# Altium footprint library 18-Heat-Sinks.PcbLib: 27 footprints (part 1 of 2)
Each footprint in its own frame and in the unit in brackets; x right, y up, seen from the top. Pads: shape width x height; smd on the part's side, far side on the other; paste and mask are expansions set on the pad; w line width, h text height; cw(c..) or ccw(c..) is an arc to the next point about the centre after c.
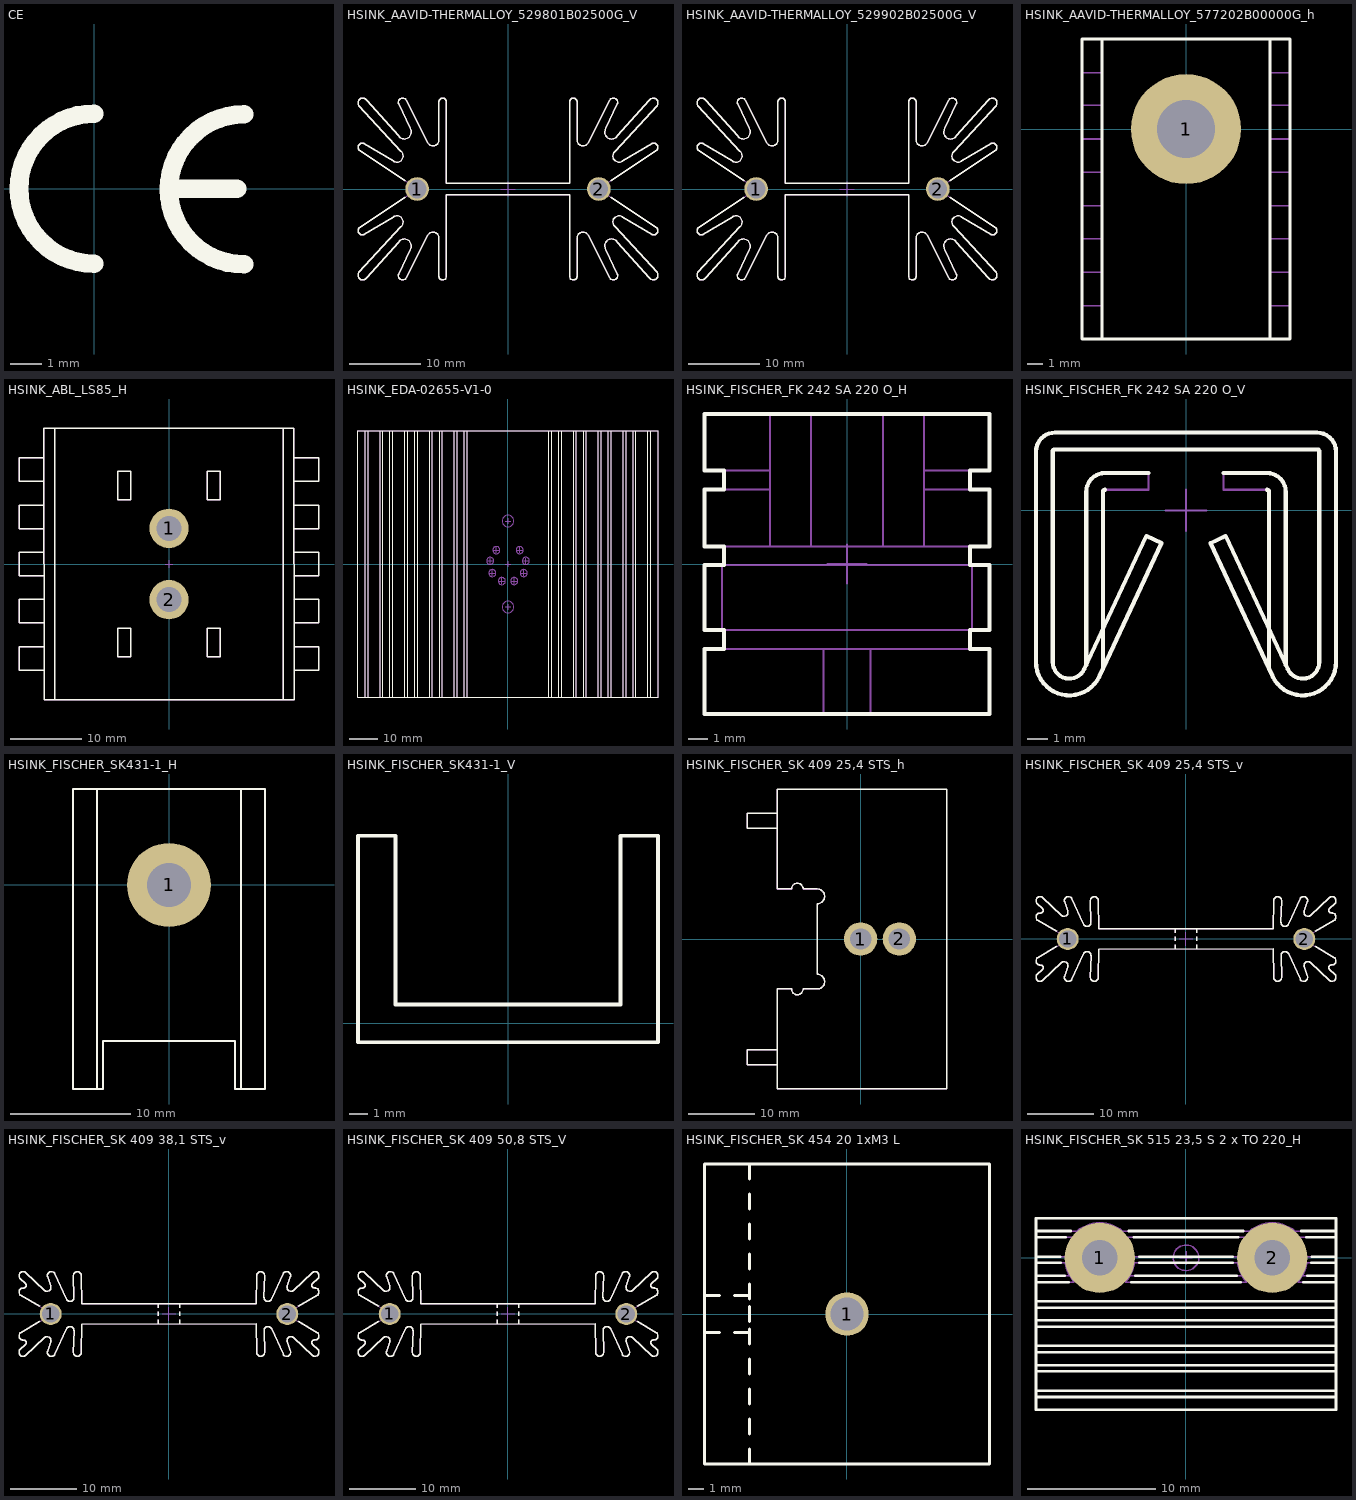
[diagram p0: the footprints below, top view; thin cyan lines are the x and y axes]

## CE [mm]
Top Overlay:
  lines w0.6: 0,-2.413 cw(c0,0) 0,2.413 ; 2.53,0 4.6,0 ; 4.826,-2.438 cw(c4.826,-0.025) 4.826,2.388
3D body "ce.stp": height 0.02, standoff 0, extent -2.725,-2.725 4.82,2.725

## HSINK_AAVID-THERMALLOY_529801B02500G_V [mm] "TO-218, TO-247 Extruded Heatsinks Rth: 5°C/W  - Vertical Mount - Height 38.1mm"
height 38.1
pads (2):
  round 3.3 hole 2.6: 1(-12.7,0) 2(12.7,0)
Top Overlay:
  lines w0.2: -14.33,-1.159 -20.759,-5.39 ccw(c-20.361,-5.831) -20.077,-6.353 -16.046,-3.923 cw(c-15.515,-4.602) -14.983,-5.281 -20.831,-11.66 ccw(c-20.299,-12.044) -19.768,-12.428 -15.279,-7.408 cw(c-14.481,-7.939) -13.684,-8.471 -15.279,-11.897 ccw(c-14.717,-12.103) -14.215,-12.428 -11.195,-6.447 cw(c-10.476,-6.821) -9.667,-6.876 -9.667,-12.168 ccw(c-9.136,-12.168) -8.604,-12.168 -8.604,-0.785 8.604,-0.785 8.604,-12.168 ccw(c9.136,-12.168) 9.667,-12.168 9.667,-6.876 cw(c10.476,-6.821) 11.195,-6.447 14.215,-12.428 ccw(c14.717,-12.103) 15.279,-11.897 13.684,-8.471 cw(c14.481,-7.939) 15.279,-7.408 19.768,-12.428 ccw(c20.299,-12.044) 20.831,-11.66 14.983,-5.281 cw(c15.515,-4.602) 16.046,-3.923 20.077,-6.353 ccw(c20.361,-5.831) 20.759,-5.39 14.33,-1.159 ; -14.33,1.159 -20.759,5.39 cw(c-20.361,5.831) -20.077,6.353 -16.046,3.923 ccw(c-15.515,4.602) -14.983,5.281 -20.831,11.66 cw(c-20.299,12.044) -19.768,12.428 -15.279,7.408 ccw(c-14.481,7.939) -13.684,8.471 -15.279,11.897 cw(c-14.717,12.103) -14.215,12.428 -11.195,6.447 ccw(c-10.476,6.821) -9.667,6.876 -9.667,12.168 cw(c-9.136,12.168) -8.604,12.168 -8.604,0.785 8.604,0.785 8.604,12.168 cw(c9.136,12.168) 9.667,12.168 9.667,6.876 ccw(c10.476,6.821) 11.195,6.447 14.215,12.428 cw(c14.717,12.103) 15.279,11.897 13.684,8.471 ccw(c14.481,7.939) 15.279,7.408 19.768,12.428 cw(c20.299,12.044) 20.831,11.66 14.983,5.281 ccw(c15.515,4.602) 16.046,3.923 20.077,6.353 cw(c20.361,5.831) 20.759,5.39 14.33,1.159
Mechanical 8:
  lines w0.1: -13.7,0 -12.7,0 ; -12.7,-1 -12.7,0 ; -12.7,1 -12.7,0 ; -11.7,0 -12.7,0 ; -1,0 0,0 ; 0,-1 0,0 ; 0,1 0,0 ; 1,0 0,0 ; 11.7,0 12.7,0 ; 12.7,-1 12.7,0 ; 12.7,1 12.7,0 ; 13.7,0 12.7,0
Mechanical 14:
  lines w0.1: -20.831,-11.66 ccw(c-20.299,-12.044) -19.768,-12.428 -15.279,-7.408 cw(c-14.481,-7.939) -13.684,-8.471 -15.279,-11.897 ccw(c-14.717,-12.103) -14.215,-12.428 -11.195,-6.447 cw(c-10.476,-6.821) -9.667,-6.876 -9.667,-12.168 ccw(c-9.136,-12.168) -8.604,-12.168 -8.604,-0.785 8.604,-0.785 8.604,-12.168 ccw(c9.136,-12.168) 9.667,-12.168 9.667,-6.876 cw(c10.476,-6.821) 11.195,-6.447 14.215,-12.428 ccw(c14.717,-12.103) 15.279,-11.897 13.684,-8.471 cw(c14.481,-7.939) 15.279,-7.408 19.768,-12.428 ccw(c20.299,-12.044) 20.831,-11.66 14.983,-5.281 cw(c15.515,-4.602) 16.046,-3.923 20.077,-6.353 ccw(c20.361,-5.831) 20.759,-5.39 13.71,-0.75 13.611,-0.75 cw(c12.7,0) 13.611,0.75 13.71,0.75 20.759,5.39 ccw(c20.361,5.831) 20.077,6.353 16.046,3.923 cw(c15.515,4.602) 14.983,5.281 20.831,11.66 ccw(c20.299,12.044) 19.768,12.428 15.279,7.408 cw(c14.481,7.939) 13.684,8.471 15.279,11.897 ccw(c14.717,12.103) 14.215,12.428 11.195,6.447 cw(c10.476,6.821) 9.667,6.876 9.667,12.168 ccw(c9.136,12.168) 8.604,12.168 8.604,0.785 -8.604,0.785 -8.604,12.168 ccw(c-9.136,12.168) -9.667,12.168 -9.667,6.876 cw(c-10.476,6.821) -11.195,6.447 -14.215,12.428 ccw(c-14.717,12.103) -15.279,11.897 -13.684,8.471 cw(c-14.481,7.939) -15.279,7.408 -19.768,12.428 ccw(c-20.299,12.044) -20.831,11.66 -14.983,5.281 cw(c-15.515,4.602) -16.046,3.923 -20.077,6.353 ccw(c-20.361,5.831) -20.759,5.39 -13.71,0.75 -13.611,0.75 cw(c-12.7,0) -13.611,-0.75 -13.71,-0.75 -20.759,-5.39 ccw(c-20.361,-5.831) -20.077,-6.353 -16.046,-3.923 cw(c-15.515,-4.602) -14.983,-5.281 -20.831,-11.66
3D body "HSINK_AAVID-THERMALLOY_529801B02500G_V.stp": height 31.8, standoff -3.96, extent -20.954,-12.7 20.955,12.7

## HSINK_AAVID-THERMALLOY_529902B02500G_V [mm] "TO-218, TO-247 Extruded Heatsinks Rth: 4.5°C/W  - Vertical Mount - Height 50.8mm"
height 50.8
pads (2):
  round 3.3 hole 2.6: 1(-12.7,0) 2(12.7,0)
Top Overlay:
  lines w0.2: -14.33,-1.159 -20.759,-5.39 ccw(c-20.361,-5.831) -20.077,-6.353 -16.046,-3.923 cw(c-15.515,-4.602) -14.983,-5.281 -20.831,-11.66 ccw(c-20.299,-12.044) -19.768,-12.428 -15.279,-7.408 cw(c-14.481,-7.939) -13.684,-8.471 -15.279,-11.897 ccw(c-14.717,-12.103) -14.215,-12.428 -11.195,-6.447 cw(c-10.476,-6.821) -9.667,-6.876 -9.667,-12.168 ccw(c-9.136,-12.168) -8.604,-12.168 -8.604,-0.785 8.604,-0.785 8.604,-12.168 ccw(c9.136,-12.168) 9.667,-12.168 9.667,-6.876 cw(c10.476,-6.821) 11.195,-6.447 14.215,-12.428 ccw(c14.717,-12.103) 15.279,-11.897 13.684,-8.471 cw(c14.481,-7.939) 15.279,-7.408 19.768,-12.428 ccw(c20.299,-12.044) 20.831,-11.66 14.983,-5.281 cw(c15.515,-4.602) 16.046,-3.923 20.077,-6.353 ccw(c20.361,-5.831) 20.759,-5.39 14.33,-1.159 ; -14.33,1.159 -20.759,5.39 cw(c-20.361,5.831) -20.077,6.353 -16.046,3.923 ccw(c-15.515,4.602) -14.983,5.281 -20.831,11.66 cw(c-20.299,12.044) -19.768,12.428 -15.279,7.408 ccw(c-14.481,7.939) -13.684,8.471 -15.279,11.897 cw(c-14.717,12.103) -14.215,12.428 -11.195,6.447 ccw(c-10.476,6.821) -9.667,6.876 -9.667,12.168 cw(c-9.136,12.168) -8.604,12.168 -8.604,0.785 8.604,0.785 8.604,12.168 cw(c9.136,12.168) 9.667,12.168 9.667,6.876 ccw(c10.476,6.821) 11.195,6.447 14.215,12.428 cw(c14.717,12.103) 15.279,11.897 13.684,8.471 ccw(c14.481,7.939) 15.279,7.408 19.768,12.428 cw(c20.299,12.044) 20.831,11.66 14.983,5.281 ccw(c15.515,4.602) 16.046,3.923 20.077,6.353 cw(c20.361,5.831) 20.759,5.39 14.33,1.159
Mechanical 8:
  lines w0.1: -13.7,0 -12.7,0 ; -12.7,-1 -12.7,0 ; -12.7,1 -12.7,0 ; -11.7,0 -12.7,0 ; -1,0 0,0 ; 0,-1 0,0 ; 0,1 0,0 ; 1,0 0,0 ; 11.7,0 12.7,0 ; 12.7,-1 12.7,0 ; 12.7,1 12.7,0 ; 13.7,0 12.7,0
Mechanical 14:
  lines w0.1: -20.831,-11.66 ccw(c-20.299,-12.044) -19.768,-12.428 -15.279,-7.408 cw(c-14.481,-7.939) -13.684,-8.471 -15.279,-11.897 ccw(c-14.717,-12.103) -14.215,-12.428 -11.195,-6.447 cw(c-10.476,-6.821) -9.667,-6.876 -9.667,-12.168 ccw(c-9.136,-12.168) -8.604,-12.168 -8.604,-0.785 8.604,-0.785 8.604,-12.168 ccw(c9.136,-12.168) 9.667,-12.168 9.667,-6.876 cw(c10.476,-6.821) 11.195,-6.447 14.215,-12.428 ccw(c14.717,-12.103) 15.279,-11.897 13.684,-8.471 cw(c14.481,-7.939) 15.279,-7.408 19.768,-12.428 ccw(c20.299,-12.044) 20.831,-11.66 14.983,-5.281 cw(c15.515,-4.602) 16.046,-3.923 20.077,-6.353 ccw(c20.361,-5.831) 20.759,-5.39 13.71,-0.75 13.611,-0.75 cw(c12.7,0) 13.611,0.75 13.71,0.75 20.759,5.39 ccw(c20.361,5.831) 20.077,6.353 16.046,3.923 cw(c15.515,4.602) 14.983,5.281 20.831,11.66 ccw(c20.299,12.044) 19.768,12.428 15.279,7.408 cw(c14.481,7.939) 13.684,8.471 15.279,11.897 ccw(c14.717,12.103) 14.215,12.428 11.195,6.447 cw(c10.476,6.821) 9.667,6.876 9.667,12.168 ccw(c9.136,12.168) 8.604,12.168 8.604,0.785 -8.604,0.785 -8.604,12.168 ccw(c-9.136,12.168) -9.667,12.168 -9.667,6.876 cw(c-10.476,6.821) -11.195,6.447 -14.215,12.428 ccw(c-14.717,12.103) -15.279,11.897 -13.684,8.471 cw(c-14.481,7.939) -15.279,7.408 -19.768,12.428 ccw(c-20.299,12.044) -20.831,11.66 -14.983,5.281 cw(c-15.515,4.602) -16.046,3.923 -20.077,6.353 ccw(c-20.361,5.831) -20.759,5.39 -13.71,0.75 -13.611,0.75 cw(c-12.7,0) -13.611,-0.75 -13.71,-0.75 -20.759,-5.39 ccw(c-20.361,-5.831) -20.077,-6.353 -16.046,-3.923 cw(c-15.515,-4.602) -14.983,-5.281 -20.831,-11.66
3D body "HSINK_AAVID-THERMALLOY_529902B02500G_V.stp": height 44.5, standoff -3.96, extent -20.954,-12.7 20.955,12.7

## HSINK_AAVID-THERMALLOY_577202B00000G_h [mm] "Heat Sink  Rth: 24.4°C/W - Horizontal  Mount"
height 12.7
pads (1):
  round 7 hole 3.7: 1(0,0)
Top Overlay:
  lines w0.2: -5.331,-13.33 -5.331,5.72 ; 5.331,-13.33 5.331,5.72 ; -6.605,-13.33 -6.605,5.72 6.605,5.72 6.605,-13.33 -6.605,-13.33
Mechanical 8:
  lines w0.1: -1,0 0,0 ; 0,-1 0,0 ; 0,1 0,0 ; 1,0 0,0
Mechanical 14:
  lines w0.1: -6.605,-11.208 -5.331,-11.208 ; -6.605,-9.092 -5.331,-9.092 ; -6.605,-6.976 -5.331,-6.976 ; -6.605,-4.86 -5.331,-4.86 ; -6.605,-2.743 -5.331,-2.743 ; -6.605,-0.629 -5.331,-0.629 ; -6.605,1.514 -5.331,1.514 ; -6.605,3.578 -5.331,3.578 ; -5.331,-13.33 -5.331,5.72 ; 5.331,-13.33 5.331,5.72 ; 5.331,-11.208 6.605,-11.208 ; 5.331,-9.092 6.605,-9.092 ; 5.331,-6.976 6.605,-6.976 ; 5.331,-4.86 6.605,-4.86 ; 5.331,-2.743 6.605,-2.743 ; 5.331,-0.629 6.605,-0.629 ; 5.331,1.514 6.605,1.514 ; 5.331,3.578 6.605,3.578 ; -6.605,-13.33 -6.605,5.72 6.605,5.72 6.605,-13.33 -6.605,-13.33
3D body "HSINK_AAVID-THERMALLOY_577202B00000_H.stp": height 12.7, standoff 0, extent -6.605,-13.33 6.605,5.72

## HSINK_ABL_LS85_H [mm] "Heat Sink  Rth: 7.1°C/W 38mm L X 42 W X 25 H - Horizontal Mount"
height 25
pads (2):
  round 5.5 hole 3.5: 1(0,5) 2(0,-5)
Top Overlay:
  lines w0.2: -17.5,-14.85 -21,-14.85 -21,-11.55 -17.5,-11.55 ; -17.5,-8.25 -21,-8.25 -21,-4.95 -17.5,-4.95 ; -17.5,-1.65 -21,-1.65 -21,1.65 -17.5,1.65 ; -17.5,4.95 -21,4.95 -21,8.25 -17.5,8.25 ; -17.5,11.55 -21,11.55 -21,14.85 -17.5,14.85 ; -16,-19 -16,19 ; 16,-19 16,19 ; 17.5,-14.85 21,-14.85 21,-11.55 17.5,-11.55 ; 17.5,-8.25 21,-8.25 21,-4.95 17.5,-4.95 ; 17.5,-1.65 21,-1.65 21,1.65 17.5,1.65 ; 17.5,4.95 21,4.95 21,8.25 17.5,8.25 ; 17.5,11.55 21,11.55 21,14.85 17.5,14.85 ; -17.5,-19 17.5,-19 17.5,19 -17.5,19 -17.5,-19 ; -7.15,-13 -7.15,-9 -5.35,-9 -5.35,-13 -7.15,-13 ; -7.15,9 -7.15,13 -5.35,13 -5.35,9 -7.15,9 ; 5.35,-13 5.35,-9 7.15,-9 7.15,-13 5.35,-13 ; 5.35,9 5.35,13 7.15,13 7.15,9 5.35,9
Mechanical 8:
  lines w0.1: 0,-5 0,-4.5 0,-5 ; 0,-5 0.5,-5 0,-5 ; 0,-5 0,-5.5 0,-5 ; 0,-5 -0.5,-5 0,-5 ; 0,0 0,0.5 0,0 ; 0,0 0.5,0 0,0 ; 0,0 0,-0.5 0,0 ; 0,0 -0.5,0 0,0 ; 0,5 0,5.5 0,5 ; 0,5 0.5,5 0,5 ; 0,5 0,4.5 0,5 ; 0,5 -0.5,5 0,5
Mechanical 14:
  circle w0.1: c0,-5 r2
  circle w0.1: c0,5 r2
  lines w0.1: -17.5,-14.85 -21,-14.85 -21,-11.55 -17.5,-11.55 ; -17.5,-8.25 -21,-8.25 -21,-4.95 -17.5,-4.95 ; -17.5,-1.65 -21,-1.65 -21,1.65 -17.5,1.65 ; -17.5,4.95 -21,4.95 -21,8.25 -17.5,8.25 ; -17.5,11.55 -21,11.55 -21,14.85 -17.5,14.85 ; -16,-19 -16,19 ; 16,-19 16,19 ; 17.5,-14.85 21,-14.85 21,-11.55 17.5,-11.55 ; 17.5,-8.25 21,-8.25 21,-4.95 17.5,-4.95 ; 17.5,-1.65 21,-1.65 21,1.65 17.5,1.65 ; 17.5,4.95 21,4.95 21,8.25 17.5,8.25 ; 17.5,11.55 21,11.55 21,14.85 17.5,14.85 ; -17.5,-19 17.5,-19 17.5,19 -17.5,19 -17.5,-19 ; -7.15,-13 -7.15,-9 -5.35,-9 -5.35,-13 -7.15,-13 ; -7.15,9 -7.15,13 -5.35,13 -5.35,9 -7.15,9 ; 5.35,-13 5.35,-9 7.15,-9 7.15,-13 5.35,-13 ; 5.35,9 5.35,13 7.15,13 7.15,9 5.35,9
3D body "HSINK_ABL_LS85.stp": height 25, standoff 0, extent -21,-19 21,19

## HSINK_EDA-02655-V1-0 [mm] "FISCHER SK 73 Heatsink  for 8 Pin TO-3 Case (L=93.5mm)"
height 23
Top Overlay:
  lines w0.2: -50.1,-46.75 -50.1,46.75 ; -49.069,-46.75 -49.069,46.75 ; -44.869,-46.75 -44.869,46.75 ; -43.9,-46.75 -43.9,46.75 ; -41.4,-46.75 -41.4,46.75 ; -40.369,-46.75 -40.369,46.75 ; -36.169,-46.75 -36.169,46.75 ; -35.2,-46.75 -35.2,46.75 ; -32.7,-46.75 -32.7,46.75 ; -31.669,-46.75 -31.669,46.75 ; -27.469,-46.75 -27.469,46.75 ; -26.5,-46.75 -26.5,46.75 ; -24,-46.75 -24,46.75 ; -22.969,-46.75 -22.969,46.75 ; -18.769,-46.75 -18.769,46.75 ; -17.8,-46.75 -17.8,46.75 ; -15.3,-46.75 -15.3,46.75 ; -14.269,-46.75 -14.269,46.75 ; 14.269,-46.75 14.269,46.75 ; 15.3,-46.75 15.3,46.75 ; 17.8,-46.75 17.8,46.75 ; 18.769,-46.75 18.769,46.75 ; 22.969,-46.75 22.969,46.75 ; 24,-46.75 24,46.75 ; 26.5,-46.75 26.5,46.75 ; 27.469,-46.75 27.469,46.75 ; 31.669,-46.75 31.669,46.75 ; 32.7,-46.75 32.7,46.75 ; 35.2,-46.75 35.2,46.75 ; 36.169,-46.75 36.169,46.75 ; 40.369,-46.75 40.369,46.75 ; 41.4,-46.75 41.4,46.75 ; 43.9,-46.75 43.9,46.75 ; 44.869,-46.75 44.869,46.75 ; 49.069,-46.75 49.069,46.75 ; 50.1,-46.75 50.1,46.75 ; -52.6,-46.75 52.6,-46.75 52.6,46.75 -52.6,46.75 -52.6,-46.75
Mechanical 8:
  lines w0.1: -7.253,1.103 -6.253,1.103 ; -6.499,-3.175 -5.499,-3.175 ; -6.253,0.103 -6.253,1.103 ; -6.253,2.103 -6.253,1.103 ; -5.499,-4.175 -5.499,-3.175 ; -5.499,-2.175 -5.499,-3.175 ; -5.253,1.103 -6.253,1.103 ; -5.082,4.864 -4.082,4.864 ; -4.499,-3.175 -5.499,-3.175 ; -4.082,3.864 -4.082,4.864 ; -4.082,5.864 -4.082,4.864 ; -3.172,-5.967 -2.172,-5.967 ; -3.082,4.864 -4.082,4.864 ; -2.172,-6.967 -2.172,-5.967 ; -2.172,-4.967 -2.172,-5.967 ; -1.172,-5.967 -2.172,-5.967 ; -1,-15.075 0,-15.075 ; -1,0 0,0 ; -1,15.075 0,15.075 ; 0,-16.075 0,-15.075 ; 0,-14.075 0,-15.075 ; 0,-1 0,0 ; 0,1 0,0 ; 0,14.075 0,15.075 ; 0,16.075 0,15.075 ; 1,-15.075 0,-15.075 ; 1,0 0,0 ; 1,15.075 0,15.075 ; 1.172,-5.967 2.172,-5.967 ; 2.172,-6.967 2.172,-5.967 ; 2.172,-4.967 2.172,-5.967 ; 3.082,4.864 4.082,4.864 ; 3.172,-5.967 2.172,-5.967 ; 4.082,3.864 4.082,4.864 ; 4.082,5.864 4.082,4.864 ; 4.499,-3.175 5.499,-3.175 ; 5.082,4.864 4.082,4.864 ; 5.254,1.103 6.254,1.103 ; 5.499,-4.175 5.499,-3.175 ; 5.499,-2.175 5.499,-3.175 ; 6.254,0.103 6.254,1.103 ; 6.254,2.103 6.254,1.103 ; 6.499,-3.175 5.499,-3.175 ; 7.254,1.103 6.254,1.103
Mechanical 14:
  circle w0.1: c-4.082,4.864 r1.25
  circle w0.1: c4.082,4.864 r1.25
  circle w0.1: c6.254,1.103 r1.25
  circle w0.1: c5.499,-3.175 r1.25
  circle w0.1: c2.172,-5.967 r1.25
  circle w0.1: c-2.172,-5.967 r1.25
  circle w0.1: c-5.499,-3.175 r1.25
  circle w0.1: c-6.253,1.103 r1.25
  circle w0.1: c0,15.075 r2.05
  circle w0.1: c0,-15.075 r2.05
  lines w0.1: -50.1,-46.75 -50.1,46.75 ; -49.069,-46.75 -49.069,46.75 ; -44.869,-46.75 -44.869,46.75 ; -43.9,-46.75 -43.9,46.75 ; -41.4,-46.75 -41.4,46.75 ; -40.369,-46.75 -40.369,46.75 ; -36.169,-46.75 -36.169,46.75 ; -35.2,-46.75 -35.2,46.75 ; -32.7,-46.75 -32.7,46.75 ; -31.669,-46.75 -31.669,46.75 ; -27.469,-46.75 -27.469,46.75 ; -26.5,-46.75 -26.5,46.75 ; -24,-46.75 -24,46.75 ; -22.969,-46.75 -22.969,46.75 ; -18.769,-46.75 -18.769,46.75 ; -17.8,-46.75 -17.8,46.75 ; -15.3,-46.75 -15.3,46.75 ; -14.269,-46.75 -14.269,46.75 ; 14.269,-46.75 14.269,46.75 ; 15.3,-46.75 15.3,46.75 ; 17.8,-46.75 17.8,46.75 ; 18.769,-46.75 18.769,46.75 ; 22.969,-46.75 22.969,46.75 ; 24,-46.75 24,46.75 ; 26.5,-46.75 26.5,46.75 ; 27.469,-46.75 27.469,46.75 ; 31.669,-46.75 31.669,46.75 ; 32.7,-46.75 32.7,46.75 ; 35.2,-46.75 35.2,46.75 ; 36.169,-46.75 36.169,46.75 ; 40.369,-46.75 40.369,46.75 ; 41.4,-46.75 41.4,46.75 ; 43.9,-46.75 43.9,46.75 ; 44.869,-46.75 44.869,46.75 ; 49.069,-46.75 49.069,46.75 ; 50.1,-46.75 50.1,46.75 ; -52.6,-46.75 52.6,-46.75 52.6,46.75 -52.6,46.75 -52.6,-46.75
3D body "HSINK_EDA-02655-V1-0.stp": height 23, standoff 0, extent -52.6,-46.75 52.6,46.75

## HSINK_FISCHER_FK 242 SA 220 O_H [mm] "TO-220 Heat Sink  Rth: 26°C/W - Horizontal Mount"
height 15.24
Top Overlay:
  lines w0.2: -7.25,-7.62 -7.25,-4.32 -6.25,-4.32 -6.25,-3.36 -7.25,-3.36 -7.25,-0.06 -6.25,-0.06 -6.25,0.9 -7.25,0.9 -7.25,3.78 -6.25,3.78 -6.25,4.74 -7.25,4.74 -7.25,7.62 7.25,7.62 7.25,4.74 6.25,4.74 6.25,3.78 7.25,3.78 7.25,0.9 6.25,0.9 6.25,-0.06 7.25,-0.06 7.25,-3.36 6.25,-3.36 6.25,-4.32 7.25,-4.32 7.25,-7.62 -7.25,-7.62
Mechanical 8:
  lines w0.1: -1,0 0,0 ; 0,-1 0,0 ; 0,1 0,0 ; 1,0 0,0
Mechanical 14:
  lines w0.1: -6.34,-3.36 -6.34,-0.06 ; -6.25,-4.32 -6.25,-3.36 ; -6.25,-0.06 -6.25,0.9 ; -6.25,3.78 -6.25,4.74 ; -3.91,0.9 -3.91,7.62 ; -3.91,3.78 -7.25,3.78 -7.25,0.9 7.25,0.9 7.25,3.78 3.91,3.78 ; -3.91,4.74 -7.25,4.74 -7.25,7.62 7.25,7.62 7.25,4.74 3.91,4.74 ; -1.82,0.9 -1.82,7.62 ; -1.183,-7.62 -1.183,-4.32 ; 1.183,-7.62 1.183,-4.32 ; 1.82,0.9 1.82,7.62 ; 3.91,0.9 3.91,7.62 ; 6.25,-4.32 6.25,-3.36 ; 6.25,-0.06 6.25,0.9 ; 6.25,3.78 6.25,4.74 ; 6.34,-3.36 6.34,-0.06 ; -7.25,-7.62 -7.25,-4.32 7.25,-4.32 7.25,-7.62 -7.25,-7.62 ; -7.25,-3.36 7.25,-3.36 7.25,-0.06 -7.25,-0.06 -7.25,-3.36
3D body "HSINK_FISCHER_FK 242 SA 220 O_H.stp": height 12.71, standoff 0, extent -7.25,-7.62 7.25,7.62

## HSINK_FISCHER_FK 242 SA 220 O_V [mm] "TO-220 Heat Sink  Rth: 26°C/W - Vertical Mount"
height 15.24
Top Overlay:
  lines w0.2: -4.82,-7.464 -4.82,0.9 cw(c-3.91,0.9) -3.91,1.81 -1.82,1.81 ; -4.01,-7.644 -4.01,0.9 cw(c-3.91,0.9) -3.91,1 ; 1.82,1.81 3.91,1.81 cw(c3.91,0.9) 4.82,0.9 4.82,-7.464 ; 3.91,1 cw(c3.91,0.9) 4.01,0.9 4.01,-7.644 ; -7.25,-7.33 ccw(c-5.64,-7.33) -4.181,-8.01 -1.183,-1.582 -1.917,-1.24 -4.915,-7.668 cw(c-5.64,-7.33) -6.44,-7.33 -6.44,2.85 cw(c-6.34,2.85) -6.34,2.95 6.34,2.95 cw(c6.34,2.85) 6.44,2.85 6.44,-7.33 cw(c5.64,-7.33) 4.915,-7.668 1.917,-1.24 1.183,-1.582 4.181,-8.01 ccw(c5.64,-7.33) 7.25,-7.33 7.25,2.85 ccw(c6.34,2.85) 6.34,3.76 -6.34,3.76 ccw(c-6.34,2.85) -7.25,2.85 -7.25,-7.33
Mechanical 8:
  lines w0.1: -1,0 0,0 ; 0,-1 0,0 ; 0,1 0,0 ; 1,0 0,0
Mechanical 14:
  lines w0.1: -4.82,-7.464 -4.82,0.9 cw(c-3.91,0.9) -3.91,1.81 -1.82,1.81 -1.82,1 -3.91,1 ccw(c-3.91,0.9) -4.01,0.9 -4.01,-7.644 ; 4.01,-7.644 4.01,0.9 ccw(c3.91,0.9) 3.91,1 1.82,1 1.82,1.81 3.91,1.81 cw(c3.91,0.9) 4.82,0.9 4.82,-7.464 ; -7.25,-7.33 ccw(c-5.64,-7.33) -4.181,-8.01 -1.183,-1.582 -1.917,-1.24 -4.915,-7.668 cw(c-5.64,-7.33) -6.44,-7.33 -6.44,2.85 cw(c-6.34,2.85) -6.34,2.95 6.34,2.95 cw(c6.34,2.85) 6.44,2.85 6.44,-7.33 cw(c5.64,-7.33) 4.915,-7.668 1.917,-1.24 1.183,-1.582 4.181,-8.01 ccw(c5.64,-7.33) 7.25,-7.33 7.25,2.85 ccw(c6.34,2.85) 6.34,3.76 -6.34,3.76 ccw(c-6.34,2.85) -7.25,2.85 -7.25,-7.33
3D body "HSINK_FISCHER_FK 242 SA 220 O_V.stp": height 20.62, standoff 5.38, extent -7.25,-8.95 7.25,3.76

## HSINK_FISCHER_SK431-1_H [mm] "Heat Sink  Rth: 18°C/W Tmax: 200°C - Horizontal  Mount"
height 11
pads (1):
  round 7 hole 3.7: 1(0,0)
Top Overlay:
  lines w0.2: -6,-17 -6,8 ; 6,-17 6,8 ; -8,-17 -8,8 8,8 8,-17 5.5,-17 5.5,-13 -5.5,-13 -5.5,-17 -8,-17
Mechanical 14:
  lines w0.1: -6,-17 -6,8 ; 6,-17 6,8 ; -8,-17 -8,8 8,8 8,-17 5.5,-17 5.5,-13 -5.5,-13 -5.5,-17 -8,-17
3D body "HSINK_FISCHER_SK431-1_H.stp": height 11, standoff 0, extent -8,-17 8,8

## HSINK_FISCHER_SK431-1_V [mm] "Heat Sink  Rth: 18°C/W Tmax: 200°C - Vertical Mount"
height 25
Top Overlay:
  lines w0.2: -8,-1 -8,10 -6,10 -6,1 6,1 6,10 8,10 8,-1 -8,-1
Mechanical 14:
  lines w0.1: -8,-1 -8,10 -6,10 -6,1 ; 6,1 6,10 8,10 8,-1
3D body "HSINK_FISCHER_SK431-1_V.stp": height 25, standoff 0, extent -8,-1 8,10

## HSINK_FISCHER_SK 409 25,4 STS_h [mm] "Rth: 8.2°C/W - Extruded Heatsinks for PCB mounting"
height 25.4
pads (2):
  round 5 hole 3.2: 1(0,0) 2(5.8,0.001)
Top Overlay:
  lines w0.2: -12.5,-18.899 -17,-18.899 -17,-16.599 -12.5,-16.599 ; -12.5,16.601 -17,16.601 -17,18.901 -12.5,18.901 ; -12.5,-22.5 12.9,-22.498 12.9,22.501 -12.5,22.5 -12.5,7.501 -10.366,7.501 cw(c-9.5,7.501) -8.634,7.501 -6.5,7.501 cw(c-6.5,6.401) -6.5,5.301 -6.5,-5.299 cw(c-6.5,-6.399) -6.5,-7.499 -8.634,-7.499 cw(c-9.5,-7.499) -10.366,-7.499 -12.5,-7.499 -12.5,-22.5
Mechanical 8:
  lines w0.1: 4.8,0.001 5.8,0.001 ; 5.8,-0.999 5.8,0.001 ; 5.8,1.001 5.8,0.001 ; 6.8,0.001 5.8,0.001 ; 0,0 1,0 0,0 ; 0,0 -1,0 0,0 ; 0,0 0,-1 0,0 ; 0,0 0,1 0,0
Mechanical 14:
  circle w0.1: c0,0 r1.6
  circle w0.1: c5.8,0 r1.6
  lines w0.1: -12.5,-18.9 -17,-18.9 -17,-16.6 -12.5,-16.6 ; -12.5,16.6 -17,16.6 -17,18.9 -12.5,18.9 ; -12.5,-22.501 12.9,-22.5 12.9,22.5 -12.5,22.499 -12.5,7.5 -10.366,7.5 cw(c-9.5,7.5) -8.634,7.5 -6.5,7.5 cw(c-6.5,6.4) -6.5,5.3 -6.5,-5.3 cw(c-6.5,-6.4) -6.5,-7.5 -8.634,-7.5 cw(c-9.5,-7.5) -10.366,-7.5 -12.5,-7.5 -12.5,-22.501
3D body "HSINK_FISCHER_SK 409 25,4 STS_H.stp": height 12.7, standoff 0, extent -17,-22.5 12.9,22.501

## HSINK_FISCHER_SK 409 25,4 STS_v [mm] "Rth: 8.2°C/W - Extruded Heatsinks for PCB mounting"
height 25.4
pads (2):
  round 3.3 hole 2.6: 1(-17.75,0.002) 2(17.75,-0.004)
Top Overlay:
  lines w0.2: -19.405,1.124 -22.206,2.785 cw(c-21.9,3.301) -21.851,3.899 ccw(c-21.818,4.298) -21.543,4.588 -22.312,5.315 cw(c-21.9,5.751) -21.488,6.187 -18.712,3.565 ccw(c-18.3,4.001) -17.735,4.203 -18.215,5.549 cw(c-17.65,5.751) -17.104,6 -15.396,2.252 ccw(c-14.85,2.501) -14.251,2.52 -14.35,5.732 cw(c-13.75,5.751) -13.15,5.758 -13.1,1.501 13.1,1.501 13.15,5.758 cw(c13.75,5.751) 14.349,5.732 14.25,2.52 ccw(c14.85,2.501) 15.396,2.252 17.103,6 cw(c17.649,5.751) 18.214,5.55 17.734,4.203 ccw(c18.299,4.002) 18.712,3.565 21.487,6.188 cw(c21.899,5.752) 22.311,5.316 21.542,4.589 ccw(c21.817,4.299) 21.85,3.9 ; -19.403,-1.126 -22.206,-2.788 ccw(c-21.9,-3.304) -21.85,-3.902 cw(c-21.817,-4.301) -21.542,-4.591 -22.311,-5.318 ccw(c-21.899,-5.754) -21.487,-6.19 -18.711,-3.567 cw(c-18.299,-4.004) -17.734,-4.205 -18.214,-5.552 ccw(c-17.649,-5.753) -17.103,-6.002 -15.396,-2.254 cw(c-14.85,-2.503) -14.25,-2.522 -14.349,-5.734 ccw(c-13.749,-5.752) -13.149,-5.759 -13.1,-1.503 13.1,-1.499 13.151,-5.76 ccw(c13.751,-5.753) 14.351,-5.734 14.251,-2.518 cw(c14.85,-2.499) 15.396,-2.25 17.105,-5.997 ccw(c17.651,-5.748) 18.216,-5.547 17.736,-4.2 cw(c18.301,-3.998) 18.713,-3.562 21.489,-6.184 ccw(c21.901,-5.748) 22.313,-5.312 21.544,-4.585 cw(c21.818,-4.295) 21.851,-3.896 ccw(c21.901,-3.298) 22.207,-2.782 19.405,-1.122 ; -1.6,-1.501 -1.6,-0.899 ; -1.6,-0.299 -1.6,0.301 ; -1.6,0.901 -1.6,1.501 ; 1.6,-1.501 1.6,-0.899 ; 1.6,-0.299 1.6,0.301 ; 1.6,0.901 1.6,1.501 ; 19.405,1.125 22.206,2.786 ccw(c21.898,3.303) 21.817,3.899
Mechanical 8:
  lines w0.1: -18.75,0.002 -17.75,0.002 ; -17.75,-0.998 -17.75,0.002 ; -17.75,1.002 -17.75,0.002 ; -16.75,0.002 -17.75,0.002 ; -1,0 0,0 ; 0,-1 0,0 ; 0,1 0,0 ; 1,0 0,0 ; 16.75,-0.004 17.75,-0.004 ; 17.75,-1.004 17.75,-0.004 ; 17.75,0.996 17.75,-0.004 ; 18.75,-0.004 17.75,-0.004
Mechanical 14:
  circle w0.1: c-17.75,-0.004 r1.15
  circle w0.1: c17.75,-0.004 r1.15
  lines w0.1: -1.6,-1.501 -1.6,-0.899 ; -1.6,-0.299 -1.6,0.301 ; -1.6,0.901 -1.6,1.501 ; 1.6,-1.501 1.6,-0.899 ; 1.6,-0.299 1.6,0.301 ; 1.6,0.901 1.6,1.501 ; 21.817,3.899 cw(c21.898,3.303) 22.206,2.786 18.79,0.761 cw(c18.637,1.019) 18.44,0.793 ccw(c17.75,0.002) 16.983,0.719 16.55,0.719 16.55,-0.716 16.983,-0.716 ccw(c17.75,0.002) 18.44,-0.79 cw(c18.638,-1.016) 18.791,-0.758 22.207,-2.782 cw(c21.901,-3.298) 21.851,-3.896 ccw(c21.818,-4.295) 21.544,-4.585 22.313,-5.312 cw(c21.901,-5.748) 21.489,-6.184 18.713,-3.562 ccw(c18.301,-3.998) 17.736,-4.2 18.216,-5.547 cw(c17.651,-5.748) 17.105,-5.997 15.396,-2.25 ccw(c14.85,-2.499) 14.251,-2.518 14.351,-5.734 cw(c13.751,-5.753) 13.151,-5.76 13.1,-1.499 -13.1,-1.503 -13.149,-5.759 cw(c-13.749,-5.752) -14.349,-5.734 -14.25,-2.522 ccw(c-14.85,-2.503) -15.396,-2.254 -17.103,-6.002 cw(c-17.649,-5.753) -18.214,-5.552 -17.734,-4.205 ccw(c-18.299,-4.004) -18.711,-3.567 -21.487,-6.19 cw(c-21.899,-5.754) -22.311,-5.318 -21.542,-4.591 ccw(c-21.817,-4.301) -21.85,-3.902 cw(c-21.9,-3.304) -22.206,-2.788 -18.79,-0.763 cw(c-18.637,-1.021) -18.44,-0.795 ccw(c-17.75,-0.004) -16.983,-0.721 -16.55,-0.721 -16.55,0.718 -16.984,0.718 ccw(c-17.75,0.001) -18.441,0.792 cw(c-18.638,1.018) -18.791,0.76 -22.206,2.785 cw(c-21.9,3.301) -21.851,3.899 ccw(c-21.818,4.298) -21.543,4.588 -22.312,5.315 cw(c-21.9,5.751) -21.488,6.187 -18.712,3.565 ccw(c-18.3,4.001) -17.735,4.203 -18.215,5.549 cw(c-17.65,5.751) -17.104,6 -15.396,2.252 ccw(c-14.85,2.501) -14.251,2.52 -14.35,5.732 cw(c-13.75,5.751) -13.15,5.758 -13.1,1.501 13.1,1.501 13.15,5.758 cw(c13.75,5.751) 14.349,5.732 14.25,2.52 ccw(c14.85,2.501) 15.396,2.252 17.103,6 cw(c17.649,5.751) 18.214,5.55 17.734,4.203 ccw(c18.299,4.002) 18.712,3.565 21.487,6.188 cw(c21.899,5.752) 22.311,5.316 21.542,4.589 ccw(c21.817,4.299) 21.85,3.9
3D body "HSINK_FISCHER_SK 409 25,4 STS_V.stp": height 25.4, standoff -4.5, extent -22.501,-6.354 22.5,6.352

## HSINK_FISCHER_SK 409 38,1 STS_v [mm] "Rth: 7°C/W - Extruded Heatsinks for PCB mounting"
height 38.1
pads (2):
  round 3.3 hole 2.6: 1(-17.75,0.002) 2(17.75,-0.004)
Top Overlay:
  lines w0.2: -19.405,1.124 -22.206,2.785 cw(c-21.9,3.301) -21.851,3.899 ccw(c-21.818,4.298) -21.543,4.588 -22.312,5.315 cw(c-21.9,5.751) -21.488,6.187 -18.712,3.565 ccw(c-18.3,4.001) -17.735,4.203 -18.215,5.549 cw(c-17.65,5.751) -17.104,6 -15.396,2.252 ccw(c-14.85,2.501) -14.251,2.52 -14.35,5.732 cw(c-13.75,5.751) -13.15,5.758 -13.1,1.501 13.1,1.501 13.15,5.758 cw(c13.75,5.751) 14.349,5.732 14.25,2.52 ccw(c14.85,2.501) 15.396,2.252 17.103,6 cw(c17.649,5.751) 18.214,5.55 17.734,4.203 ccw(c18.299,4.002) 18.712,3.565 21.487,6.188 cw(c21.899,5.752) 22.311,5.316 21.542,4.589 ccw(c21.817,4.299) 21.85,3.9 ; -19.403,-1.126 -22.206,-2.788 ccw(c-21.9,-3.304) -21.85,-3.902 cw(c-21.817,-4.301) -21.542,-4.591 -22.311,-5.318 ccw(c-21.899,-5.754) -21.487,-6.19 -18.711,-3.567 cw(c-18.299,-4.004) -17.734,-4.205 -18.214,-5.552 ccw(c-17.649,-5.753) -17.103,-6.002 -15.396,-2.254 cw(c-14.85,-2.503) -14.25,-2.522 -14.349,-5.734 ccw(c-13.749,-5.752) -13.149,-5.759 -13.1,-1.503 13.1,-1.499 13.151,-5.76 ccw(c13.751,-5.753) 14.351,-5.734 14.251,-2.518 cw(c14.85,-2.499) 15.396,-2.25 17.105,-5.997 ccw(c17.651,-5.748) 18.216,-5.547 17.736,-4.2 cw(c18.301,-3.998) 18.713,-3.562 21.489,-6.184 ccw(c21.901,-5.748) 22.313,-5.312 21.544,-4.585 cw(c21.818,-4.295) 21.851,-3.896 ccw(c21.901,-3.298) 22.207,-2.782 19.405,-1.122 ; -1.6,-1.501 -1.6,-0.899 ; -1.6,-0.299 -1.6,0.301 ; -1.6,0.901 -1.6,1.501 ; 1.6,-1.501 1.6,-0.899 ; 1.6,-0.299 1.6,0.301 ; 1.6,0.901 1.6,1.501 ; 19.405,1.125 22.206,2.786 ccw(c21.898,3.303) 21.817,3.899
Mechanical 8:
  lines w0.1: -18.75,0.002 -17.75,0.002 ; -17.75,-0.998 -17.75,0.002 ; -17.75,1.002 -17.75,0.002 ; -16.75,0.002 -17.75,0.002 ; -1,0 0,0 ; 0,-1 0,0 ; 0,1 0,0 ; 1,0 0,0 ; 16.75,-0.004 17.75,-0.004 ; 17.75,-1.004 17.75,-0.004 ; 17.75,0.996 17.75,-0.004 ; 18.75,-0.004 17.75,-0.004
Mechanical 14:
  circle w0.1: c-17.75,-0.004 r1.15
  circle w0.1: c17.75,-0.004 r1.15
  lines w0.1: -1.6,-1.501 -1.6,-0.899 ; -1.6,-0.299 -1.6,0.301 ; -1.6,0.901 -1.6,1.501 ; 1.6,-1.501 1.6,-0.899 ; 1.6,-0.299 1.6,0.301 ; 1.6,0.901 1.6,1.501 ; 21.817,3.899 cw(c21.898,3.303) 22.206,2.786 18.79,0.761 cw(c18.637,1.019) 18.44,0.793 ccw(c17.75,0.002) 16.983,0.719 16.55,0.719 16.55,-0.716 16.983,-0.716 ccw(c17.75,0.002) 18.44,-0.79 cw(c18.638,-1.016) 18.791,-0.758 22.207,-2.782 cw(c21.901,-3.298) 21.851,-3.896 ccw(c21.818,-4.295) 21.544,-4.585 22.313,-5.312 cw(c21.901,-5.748) 21.489,-6.184 18.713,-3.562 ccw(c18.301,-3.998) 17.736,-4.2 18.216,-5.547 cw(c17.651,-5.748) 17.105,-5.997 15.396,-2.25 ccw(c14.85,-2.499) 14.251,-2.518 14.351,-5.734 cw(c13.751,-5.753) 13.151,-5.76 13.1,-1.499 -13.1,-1.503 -13.149,-5.759 cw(c-13.749,-5.752) -14.349,-5.734 -14.25,-2.522 ccw(c-14.85,-2.503) -15.396,-2.254 -17.103,-6.002 cw(c-17.649,-5.753) -18.214,-5.552 -17.734,-4.205 ccw(c-18.299,-4.004) -18.711,-3.567 -21.487,-6.19 cw(c-21.899,-5.754) -22.311,-5.318 -21.542,-4.591 ccw(c-21.817,-4.301) -21.85,-3.902 cw(c-21.9,-3.304) -22.206,-2.788 -18.79,-0.763 cw(c-18.637,-1.021) -18.44,-0.795 ccw(c-17.75,-0.004) -16.983,-0.721 -16.55,-0.721 -16.55,0.718 -16.984,0.718 ccw(c-17.75,0.001) -18.441,0.792 cw(c-18.638,1.018) -18.791,0.76 -22.206,2.785 cw(c-21.9,3.301) -21.851,3.899 ccw(c-21.818,4.298) -21.543,4.588 -22.312,5.315 cw(c-21.9,5.751) -21.488,6.187 -18.712,3.565 ccw(c-18.3,4.001) -17.735,4.203 -18.215,5.549 cw(c-17.65,5.751) -17.104,6 -15.396,2.252 ccw(c-14.85,2.501) -14.251,2.52 -14.35,5.732 cw(c-13.75,5.751) -13.15,5.758 -13.1,1.501 13.1,1.501 13.15,5.758 cw(c13.75,5.751) 14.349,5.732 14.25,2.52 ccw(c14.85,2.501) 15.396,2.252 17.103,6 cw(c17.649,5.751) 18.214,5.55 17.734,4.203 ccw(c18.299,4.002) 18.712,3.565 21.487,6.188 cw(c21.899,5.752) 22.311,5.316 21.542,4.589 ccw(c21.817,4.299) 21.85,3.9
3D body "HSINK_FISCHER_SK 409 38,1 STS_V.stp": height 38.1, standoff -4.5, extent -22.501,-6.352 22.5,6.354

## HSINK_FISCHER_SK 409 50,8 STS_V [mm] "Rth: 6.2°C/W - Extruded Heatsinks for PCB mounting"
height 38.1
pads (2):
  round 3.3 hole 2.6: 1(-17.75,0.002) 2(17.75,-0.004)
Top Overlay:
  lines w0.2: -19.405,1.124 -22.206,2.785 cw(c-21.9,3.301) -21.851,3.899 ccw(c-21.818,4.298) -21.543,4.588 -22.312,5.315 cw(c-21.9,5.751) -21.488,6.187 -18.712,3.565 ccw(c-18.3,4.001) -17.735,4.203 -18.215,5.549 cw(c-17.65,5.751) -17.104,6 -15.396,2.252 ccw(c-14.85,2.501) -14.251,2.52 -14.35,5.732 cw(c-13.75,5.751) -13.15,5.758 -13.1,1.501 13.1,1.501 13.15,5.758 cw(c13.75,5.751) 14.349,5.732 14.25,2.52 ccw(c14.85,2.501) 15.396,2.252 17.103,6 cw(c17.649,5.751) 18.214,5.55 17.734,4.203 ccw(c18.299,4.002) 18.712,3.565 21.487,6.188 cw(c21.899,5.752) 22.311,5.316 21.542,4.589 ccw(c21.817,4.299) 21.85,3.9 ; -19.403,-1.126 -22.206,-2.788 ccw(c-21.9,-3.304) -21.85,-3.902 cw(c-21.817,-4.301) -21.542,-4.591 -22.311,-5.318 ccw(c-21.899,-5.754) -21.487,-6.19 -18.711,-3.567 cw(c-18.299,-4.004) -17.734,-4.205 -18.214,-5.552 ccw(c-17.649,-5.753) -17.103,-6.002 -15.396,-2.254 cw(c-14.85,-2.503) -14.25,-2.522 -14.349,-5.734 ccw(c-13.749,-5.752) -13.149,-5.759 -13.1,-1.503 13.1,-1.499 13.151,-5.76 ccw(c13.751,-5.753) 14.351,-5.734 14.251,-2.518 cw(c14.85,-2.499) 15.396,-2.25 17.105,-5.997 ccw(c17.651,-5.748) 18.216,-5.547 17.736,-4.2 cw(c18.301,-3.998) 18.713,-3.562 21.489,-6.184 ccw(c21.901,-5.748) 22.313,-5.312 21.544,-4.585 cw(c21.818,-4.295) 21.851,-3.896 ccw(c21.901,-3.298) 22.207,-2.782 19.405,-1.122 ; -1.6,-1.501 -1.6,-0.899 ; -1.6,-0.299 -1.6,0.301 ; -1.6,0.901 -1.6,1.501 ; 1.6,-1.501 1.6,-0.899 ; 1.6,-0.299 1.6,0.301 ; 1.6,0.901 1.6,1.501 ; 19.405,1.125 22.206,2.786 ccw(c21.898,3.303) 21.817,3.899
Mechanical 8:
  lines w0.1: -18.75,0.002 -17.75,0.002 ; -17.75,-0.998 -17.75,0.002 ; -17.75,1.002 -17.75,0.002 ; -16.75,0.002 -17.75,0.002 ; -1,0 0,0 ; 0,-1 0,0 ; 0,1 0,0 ; 1,0 0,0 ; 16.75,-0.004 17.75,-0.004 ; 17.75,-1.004 17.75,-0.004 ; 17.75,0.996 17.75,-0.004 ; 18.75,-0.004 17.75,-0.004
Mechanical 14:
  circle w0.1: c17.75,-0.004 r1.15
  circle w0.1: c-17.75,-0.004 r1.15
  lines w0.1: -1.6,-1.501 -1.6,-0.899 ; -1.6,-0.299 -1.6,0.301 ; -1.6,0.901 -1.6,1.501 ; 1.6,-1.501 1.6,-0.899 ; 1.6,-0.299 1.6,0.301 ; 1.6,0.901 1.6,1.501 ; 21.817,3.899 cw(c21.898,3.303) 22.206,2.786 18.79,0.761 cw(c18.637,1.019) 18.44,0.793 ccw(c17.75,0.002) 16.983,0.719 16.55,0.719 16.55,-0.716 16.983,-0.716 ccw(c17.75,0.002) 18.44,-0.79 cw(c18.638,-1.016) 18.791,-0.758 22.207,-2.782 cw(c21.901,-3.298) 21.851,-3.896 ccw(c21.818,-4.295) 21.544,-4.585 22.313,-5.312 cw(c21.901,-5.748) 21.489,-6.184 18.713,-3.562 ccw(c18.301,-3.998) 17.736,-4.2 18.216,-5.547 cw(c17.651,-5.748) 17.105,-5.997 15.396,-2.25 ccw(c14.85,-2.499) 14.251,-2.518 14.351,-5.734 cw(c13.751,-5.753) 13.151,-5.76 13.1,-1.499 -13.1,-1.503 -13.149,-5.759 cw(c-13.749,-5.752) -14.349,-5.734 -14.25,-2.522 ccw(c-14.85,-2.503) -15.396,-2.254 -17.103,-6.002 cw(c-17.649,-5.753) -18.214,-5.552 -17.734,-4.205 ccw(c-18.299,-4.004) -18.711,-3.567 -21.487,-6.19 cw(c-21.899,-5.754) -22.311,-5.318 -21.542,-4.591 ccw(c-21.817,-4.301) -21.85,-3.902 cw(c-21.9,-3.304) -22.206,-2.788 -18.79,-0.763 cw(c-18.637,-1.021) -18.44,-0.795 ccw(c-17.75,-0.004) -16.983,-0.721 -16.55,-0.721 -16.55,0.718 -16.984,0.718 ccw(c-17.75,0.001) -18.441,0.792 cw(c-18.638,1.018) -18.791,0.76 -22.206,2.785 cw(c-21.9,3.301) -21.851,3.899 ccw(c-21.818,4.298) -21.543,4.588 -22.312,5.315 cw(c-21.9,5.751) -21.488,6.187 -18.712,3.565 ccw(c-18.3,4.001) -17.735,4.203 -18.215,5.549 cw(c-17.65,5.751) -17.104,6 -15.396,2.252 ccw(c-14.85,2.501) -14.251,2.52 -14.35,5.732 cw(c-13.75,5.751) -13.15,5.758 -13.1,1.501 13.1,1.501 13.15,5.758 cw(c13.75,5.751) 14.349,5.732 14.25,2.52 ccw(c14.85,2.501) 15.396,2.252 17.103,6 cw(c17.649,5.751) 18.214,5.55 17.734,4.203 ccw(c18.299,4.002) 18.712,3.565 21.487,6.188 cw(c21.899,5.752) 22.311,5.316 21.542,4.589 ccw(c21.817,4.299) 21.85,3.9
3D body "HSINK_FISCHER_SK 409 50,8 STS.stp": height 50.8, standoff -4.5, extent -22.501,-6.352 22.5,6.354

## HSINK_FISCHER_SK 454 20 1xM3 L [mm] "Black Anodised Extruded Heat Sink Rth: 10.1°C/W - Body L 19mm X W 20mm H 21.45mm (M3x0.5 Drilling for TO 220 )"
height 21.45
pads (1):
  round 2.9 hole 2.2: 1(0,0)
Top Overlay:
  lines w0.2: -9.5,-1.229 -8.5,-1.229 ; -9.5,1.229 -8.5,1.229 ; -7.5,-1.229 -6.5,-1.229 ; -7.5,1.229 -6.5,1.229 ; -6.5,-10 -6.5,-9 ; -6.5,-8 -6.5,-7 ; -6.5,-6 -6.5,-5 ; -6.5,-4 -6.5,-3 ; -6.5,-2 -6.5,-1 ; -6.5,-0.5 -6.5,0.5 ; -6.5,1 -6.5,2 ; -6.5,3 -6.5,4 ; -6.5,5 -6.5,6 ; -6.5,7 -6.5,8 ; -6.5,9 -6.5,10 ; -9.5,-10 9.5,-10 9.5,10 -9.5,10 -9.5,0 -9.5,-10
Mechanical 8:
  lines w0.1: -0.5,0 0,0 ; 0,-0.5 0,0 ; 0,0.5 0,0 ; 0.5,0 0,0
Mechanical 14:
  circle w0.1: c0,0 r1
  circle w0.1: c0,0 r0.75
  lines w0.1: -9.5,-1.229 -8.5,-1.229 ; -9.5,1.229 -8.5,1.229 ; -7.5,-1.229 -6.5,-1.229 ; -7.5,1.229 -6.5,1.229 ; -6.5,-10 -6.5,-9 ; -6.5,-8 -6.5,-7 ; -6.5,-6 -6.5,-5 ; -6.5,-4 -6.5,-3 ; -6.5,-2 -6.5,-1 ; -6.5,-0.5 -6.5,0.5 ; -6.5,1 -6.5,2 ; -6.5,3 -6.5,4 ; -6.5,5 -6.5,6 ; -6.5,7 -6.5,8 ; -6.5,9 -6.5,10 ; -9.5,-10 9.5,-10 9.5,10 -9.5,10 -9.5,0 -9.5,-10
3D body "HSINK_FISCHER_SK 454 20 1xM3 L.stp": height 21.45, standoff -3.9, extent -9.5,-10 9.5,10

## HSINK_FISCHER_SK 515 23,5 S 2 x TO 220_H [mm] "Black Anodised Extruded Heat Sink Rth: 27.5°C/W For 2 x TO220 - Body L 23.5mm X W 15mm H 10.7mm (Screw Fastening M2.5 Version)"
height 10.7
pads (2):
  round 5.5 hole 2.8: 1(-6.75,0) 2(6.75,0)
Top Overlay:
  lines w0.2: -11.75,-10.9 11.75,-10.9 ; -11.75,-10.4 11.75,-10.4 ; -11.75,-8.9 11.75,-8.9 ; -11.75,-8.4 11.75,-8.4 ; -11.75,-7.4 11.75,-7.4 ; -11.75,-6.9 11.75,-6.9 ; -11.75,-5.4 11.75,-5.4 ; -11.75,-4.9 11.75,-4.9 ; -11.75,-3.9 11.75,-3.9 ; -11.75,-3.4 11.75,-3.4 ; -11.75,-1.9 -9.199,-1.9 ; -11.75,-1.4 -9.516,-1.4 ; -11.75,-0.4 -9.824,-0.4 ; -11.75,0.1 -9.848,0.1 ; -11.75,1.6 -9.405,1.6 ; -11.75,2.1 -9.03,2.1 ; -4.47,2.1 4.47,2.1 ; -4.3,-1.9 4.301,-1.9 ; -4.095,1.6 4.095,1.6 ; -3.984,-1.4 3.984,-1.4 ; -3.652,0.1 3.652,0.1 ; 9.03,2.1 11.75,2.1 ; 9.2,-1.9 11.75,-1.9 ; 9.405,1.6 11.75,1.6 ; 9.516,-1.4 11.75,-1.4 ; 9.824,-0.4 11.75,-0.4 ; 9.848,0.1 11.75,0.1 ; -11.75,-11.9 -11.75,3.1 11.75,3.1 11.75,-11.9 -11.75,-11.9 ; -3.676,-0.4 3.676,-0.4 -3.676,-0.4
Mechanical 8:
  lines w0.1: -7.25,0 -6.75,0 ; -6.75,-0.5 -6.75,0 ; -6.75,0.5 -6.75,0 ; -6.25,0 -6.75,0 ; -0.5,0 0,0 ; 0,-0.5 0,0 ; 0,0.5 0,0 ; 0.5,0 0,0 ; 6.25,0 6.75,0 ; 6.75,-0.5 6.75,0 ; 6.75,0.5 6.75,0 ; 7.25,0 6.75,0
Mechanical 14:
  circle w0.1: c0,0 r1
  circle w0.1: c6.75,0 r1.4
  circle w0.1: c-6.75,0 r1.4
  lines w0.1: -11.75,-10.9 11.75,-10.9 ; -11.75,-10.4 11.75,-10.4 ; -11.75,-8.9 11.75,-8.9 ; -11.75,-8.4 11.75,-8.4 ; -11.75,-7.4 11.75,-7.4 ; -11.75,-6.9 11.75,-6.9 ; -11.75,-5.4 11.75,-5.4 ; -11.75,-4.9 11.75,-4.9 ; -11.75,-3.9 11.75,-3.9 ; -11.75,-3.4 11.75,-3.4 ; -11.75,-1.9 -8.738,-1.9 cw(c-6.75,0) -9.471,-0.4 ; -11.75,-1.4 -9.117,-1.4 ; -11.75,-0.4 -8.092,-0.4 ; -11.75,0.1 -8.146,0.1 ; -11.75,1.6 11.75,1.6 ; -11.75,2.1 11.75,2.1 ; -8.525,2.1 cw(c-6.75,0) -4.974,2.1 ; -5.408,-0.4 5.408,-0.4 ; -5.354,0.1 5.354,0.1 ; -4.383,-1.4 4.383,-1.4 ; 4.975,2.1 cw(c6.75,0) 8.526,2.1 ; 8.092,-0.4 11.75,-0.4 ; 8.146,0.1 11.75,0.1 ; 9.117,-1.4 11.75,-1.4 ; 9.471,-0.4 cw(c6.75,0) 8.738,-1.9 11.75,-1.9 ; -11.75,-11.9 -11.75,3.1 11.75,3.1 11.75,-11.9 -11.75,-11.9 ; -4.762,-1.9 ccw(c-6.75,0) -4.029,-0.4 4.029,-0.4 ccw(c6.75,0) 4.762,-1.9 -4.762,-1.9
3D body "HSINK_FISCHER_SK 515 23,5 S 2 x TO 220_h.stp": height 10.7, standoff 0, extent -11.75,-11.9 11.75,3.1